# EAGLE library part TPS63700DRCR (library SSW-130-01-G-S)
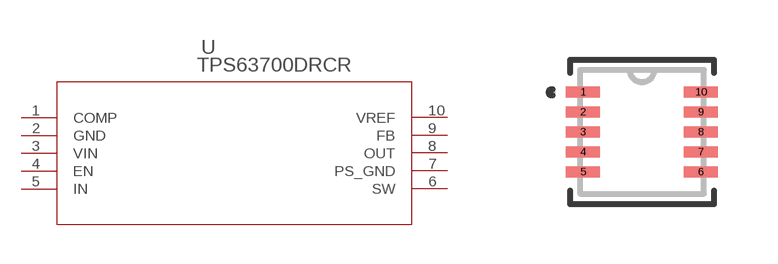
[diagram p7: symbol with the pads of DRC10_2P4X1P65; footprint DRC10_2P4X1P65]

Designator prefix U

## TPS63700DRCR (COPYRIGHT: Copyright (C) 2024 Ultra Librarian. All rights reserved.; MANUFACTURER_PART_NUMBER: TPS63700DRCR; MFR_NAME: Texas Instruments)  [DRC10_2P4X1P65]
1  COMP
2  GND  pwr
3  VIN  in
4  EN  in
5  IN  in
6  SW  out
7  PS_GND  in
8  OUT  in
9  FB  in
10  VREF  out

## Footprint DRC10_2P4X1P65 (pad centres in mm)
smd 0.85 x 0.28: 1 -1.475,1; 2 -1.475,0.5; 3 -1.475,0; 4 -1.475,-0.5; 5 -1.475,-1; 6 1.475,-1; 7 1.475,-0.5; 8 1.475,0; 9 1.475,0.5; 10 1.475,1